# Altium schematic symbol library Miscellaneous Connector WGY.SchLib: 1 symbol
Pins are listed as number, name and electrical type; pins without a type are passive.

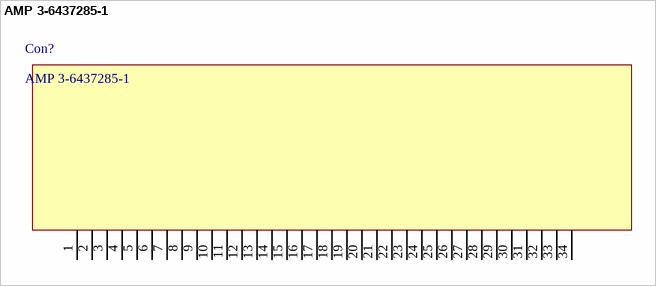
[diagram p0: symbol AMP 3-6437285-1]

## AMP 3-6437285-1
designator Con?
TE 内部编号3-6437285-1 / TE 内部产品描述SUPER SEAL 34POS CAP ASSY H AU SUPERSEAL 1.0 接头 / 电气特征 / 额定电压（最大值） 250 VAC / 工作电压 250 VAC / 标称电压架构 12 V, 24 V, 42 V, 48 V, 240 / 端子额定电流 15 安培
footprint 3-6437285-1
pins: 1, 2, 3, 4, 5, 6, 7, 8, 9, 10, 11, 12, 13, 14, 15, 16, 17, 18, 19, 20, 21, 22, 23, 24, 25, 26, 27, 28, 29, 30, 31, 32, 33, 34